# EAGLE library part 610012243021 (library Wurth_Elektronik2)
WR-PHD 2.54mm SMT Dual Socket Header Bottom Entry, 12 Pins=>Code : Con_BTB_SHD_2.54_2_610012243021 <http://katalog.we-online.de/media/images/eican/Con_BTB_SHD_2.54_2_6100xx243021_pf2.jpg> Details see: http://katalog.we-online.de/en/em/610_0xx_243_021 Created 2014-05-30, Karrer Zheng 2014 (C) Würth Elektronik
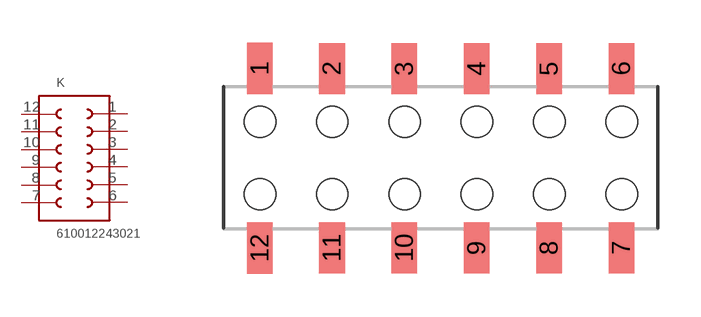
[diagram p186: symbol with the pads of 610012243021; footprint 610012243021]

Designator prefix K

## 610012243021  [610012243021]
1  1  pas
2  2  pas
3  3  pas
4  4  pas
5  5  pas
6  6  pas
7  7  pas
8  8  pas
9  9  pas
10  10  pas
11  11  pas
12  12  pas

## Footprint 610012243021 (pad centres in mm)
WR-PHD 2.54mm SMT Dual Socket Header Bottom Entry, 12Pins
smd 0.9 x 1.8: 1 -6.35,3.15; 2 -3.82,3.14; 3 -1.28,3.14; 4 1.26,3.14; 5 3.8,3.14; 6 6.34,3.14; 7 6.34,-3.16; 8 3.8,-3.16; 9 1.26,-3.16; 10 -1.28,-3.16; 11 -3.82,-3.16; 12 -6.35,-3.17
hole 1.1 at -6.35,1.27
hole 1.1 at -3.81,1.27
hole 1.1 at -3.81,-1.27
hole 1.1 at -6.35,-1.27
hole 1.1 at -1.27,1.27
hole 1.1 at -1.27,-1.27
hole 1.1 at 1.27,1.27
hole 1.1 at 1.27,-1.27
hole 1.1 at 3.81,1.27
hole 1.1 at 3.81,-1.27
hole 1.1 at 6.35,1.27
hole 1.1 at 6.35,-1.27